# Altium footprint library Atmega128.PcbLib: 3 footprints
Each footprint in its own frame and in the unit in brackets; x right, y up, seen from the top. Pads: shape width x height; smd on the part's side, far side on the other; paste and mask are expansions set on the pad; w line width, h text height; cw(c..) or ccw(c..) is an arc to the next point about the centre after c.
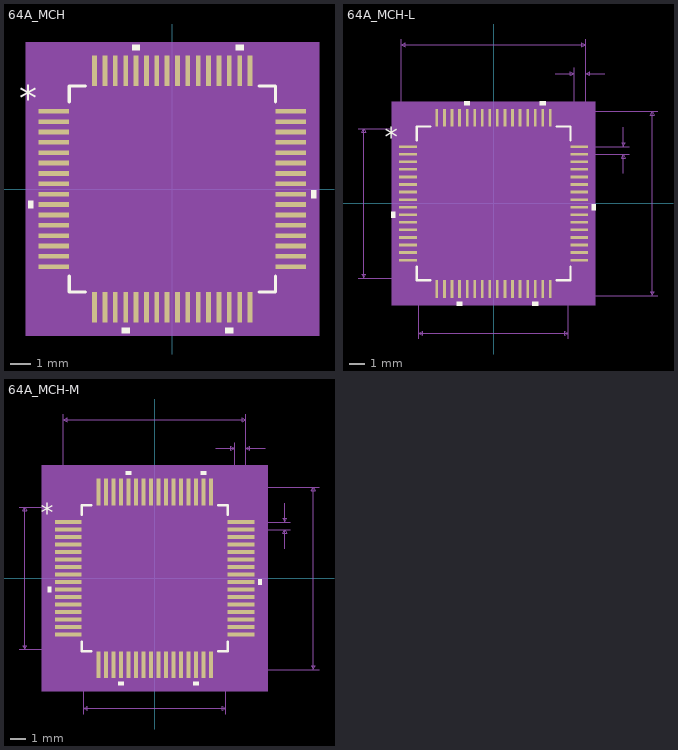
[diagram p0: the footprints below, top view; thin cyan lines are the x and y axes]

## 64A_MCH [mil]
pads (64):
  rect 58x9 smd paste+0 mask+0: 1(-225,147.75) 2(-225,128.05) 3(-225,108.35) 4(-225,88.65) 5(-225,68.95) 6(-225,49.25) 7(-225,29.55) 8(-225,9.85) 9(-225,-9.85) 10(-225,-29.55) 11(-225,-49.25) 12(-225,-68.95) 13(-225,-88.65) 14(-225,-108.35) 15(-225,-128.05) 16(-225,-147.75) 33(225,-147.75) 34(225,-128.05) 35(225,-108.35) 36(225,-88.65) 37(225,-68.95) 38(225,-49.25) 39(225,-29.55) 40(225,-9.85) 41(225,9.85) 42(225,29.55) 43(225,49.25) 44(225,68.95) 45(225,88.65) 46(225,108.35) 47(225,128.05) 48(225,147.75)
  rect 9x58 smd paste+0 mask+0: 17(-147.75,-225) 18(-128.05,-225) 19(-108.35,-225) 20(-88.65,-225) 21(-68.95,-225) 22(-49.25,-225) 23(-29.55,-225) 24(-9.85,-225) 25(9.85,-225) 26(29.55,-225) 27(49.25,-225) 28(68.95,-225) 29(88.65,-225) 30(108.35,-225) 31(128.05,-225) 32(147.75,-225) 49(147.75,225) 50(128.05,225) 51(108.35,225) 52(88.65,225) 53(68.95,225) 54(49.25,225) 55(29.55,225) 56(9.85,225) 57(-9.85,225) 58(-29.55,225) 59(-49.25,225) 60(-68.95,225) 61(-88.65,225) 62(-108.35,225) 63(-128.05,225) 64(-147.75,225)
Top Overlay:
  region: -61.45,264 -76.45,264 -76.45,274 -61.45,274
  region: 135.55,264 120.55,264 120.55,274 135.55,274
  region: 264,-2.35 274,-2.35 274,-17.35 264,-17.35
  region: 115.85,-264 100.85,-264 100.85,-274 115.85,-274
  region: -81.15,-264 -96.15,-264 -96.15,-274 -81.15,-274
  region: -264,-22.05 -274,-22.05 -274,-37.05 -264,-37.05
  lines w6: -196,-165.35 -196,-196 -165.35,-196 ; -196,165.35 -196,196 -165.35,196 ; 165.35,-196 196,-196 196,-165.35 ; 165.35,196 196,196 196,165.35
  text "*" at -291.5,147.6 h50
Mechanical 5:
  region: 279,-279 -279,-279 -279,279 279,279
Mechanical 13:
  drawing of 261 lines, arcs and shapes, not listed
  text "*" at -188.5,117.6 h50
Mechanical 15:
  region: -167.75,-201 -201,-201 -201,-167.75 -264,-167.75 -264,167.75 -201,167.75 -201,201 -167.75,201 -167.75,264 167.75,264 167.75,201 201,201 201,167.75 264,167.75 264,-167.75 201,-167.75 201,-201 167.75,-201 167.75,-264 -167.75,-264
  lines w6: -264,-167.75 -264,167.75 -201,167.75 -201,201 -167.75,201 -167.75,264 167.75,264 167.75,201 201,201 201,167.75 264,167.75 264,-167.75 201,-167.75 201,-201 167.75,-201 167.75,-264 -167.75,-264 -167.75,-201 -201,-201 -201,-167.75 -264,-167.75
3D body: height 10, standoff 0, extent 0,0 10,10
3D body "64A_MCH.step": height 65.12, standoff 0, extent -239.99,-239.99 240.01,240.01
3D body "64A_MCH.step": height 65.12, standoff 0, extent -239.99,-239.99 240.01,240.01

## 64A_MCH-L [mil]
pads (64):
  rect 46x7 smd: 1(-223,147.75) 2(-223,128.05) 3(-223,108.35) 4(-223,88.65) 5(-223,68.95) 6(-223,49.25) 7(-223,29.55) 8(-223,9.85) 9(-223,-9.85) 10(-223,-29.55) 11(-223,-49.25) 12(-223,-68.95) 13(-223,-88.65) 14(-223,-108.35) 15(-223,-128.05) 16(-223,-147.75) 33(223,-147.75) 34(223,-128.05) 35(223,-108.35) 36(223,-88.65) 37(223,-68.95) 38(223,-49.25) 39(223,-29.55) 40(223,-9.85) 41(223,9.85) 42(223,29.55) 43(223,49.25) 44(223,68.95) 45(223,88.65) 46(223,108.35) 47(223,128.05) 48(223,147.75)
  rect 7x46 smd: 17(-147.75,-223) 18(-128.05,-223) 19(-108.35,-223) 20(-88.65,-223) 21(-68.95,-223) 22(-49.25,-223) 23(-29.55,-223) 24(-9.85,-223) 25(9.85,-223) 26(29.55,-223) 27(49.25,-223) 28(68.95,-223) 29(88.65,-223) 30(108.35,-223) 31(128.05,-223) 32(147.75,-223) 49(147.75,223) 50(128.05,223) 51(108.35,223) 52(88.65,223) 53(68.95,223) 54(49.25,223) 55(29.55,223) 56(9.85,223) 57(-9.85,223) 58(-29.55,223) 59(-49.25,223) 60(-68.95,223) 61(-88.65,223) 62(-108.35,223) 63(-128.05,223) 64(-147.75,223)
Top Overlay:
  region: -61.45,256 -76.45,256 -76.45,266 -61.45,266
  region: 135.55,256 120.55,256 120.55,266 135.55,266
  region: 256,-2.35 266,-2.35 266,-17.35 256,-17.35
  region: 115.85,-256 100.85,-256 100.85,-266 115.85,-266
  region: -81.15,-256 -96.15,-256 -96.15,-266 -81.15,-266
  region: -256,-22.05 -266,-22.05 -266,-37.05 -256,-37.05
  lines w6: -200,-164.35 -200,-200 -164.35,-200 ; -200,164.35 -200,200 -164.35,200 ; 164.35,-200 200,-200 200,-164.35 ; 164.35,200 200,200 200,164.35
  text "*" at -283.5,147.6 h50
Mechanical 5:
  region: 265,-265 -265,-265 -265,265 265,265
Mechanical 7:
  lines w1: -353,-195 -147.75,-195 ; -353,195 -147.75,195 ; -240,147.75 -240,428 ; -195,-353 -195,-147.75 ; 147.75,-240 428,-240 ; 147.75,240 428,240 ; 160,338 210,338 ; 195,-353 195,-147.75 ; 210,147.75 210,353 ; 223,128.05 353,128.05 ; 223,147.75 353,147.75 ; 240,353 240,147.75 240,428 ; 290,338 240,338 ; 338,78.05 338,128.05 ; 338,197.75 338,147.75 ; -338,-195 -333,-185 -343,-185 -338,-195 ; -338,-195 -338,195 ; -338,195 -333,185 -343,185 -338,195 ; -240,413 -230,408 -230,418 -240,413 ; -240,413 240,413 ; -195,-338 -185,-343 -185,-333 -195,-338 ; -195,-338 195,-338 ; 195,-338 185,-343 185,-333 195,-338 ; 210,338 200,333 200,343 210,338 ; 240,338 250,333 250,343 240,338 ; 240,413 230,408 230,418 240,413 ; 338,128.05 343,118.05 333,118.05 338,128.05 ; 338,147.75 343,157.75 333,157.75 338,147.75 ; 413,-240 418,-230 408,-230 413,-240 ; 413,-240 413,240 ; 413,240 418,230 408,230 413,240
  text "0.39in/9.906mm" at -533,-12.5 h25
  text "0.39in/9.906mm" at -87.5,-383 h25
  text "0.48in/12.192mm" at 433,-12.5 h25
  text "0.48in/12.192mm" at -93.75,433 h25
  text "0.03in/0.762mm" at 137.5,358 h25
  text "0.02in/0.5mm" at 358,125.4 h25
  text "Default Vert Padstyle: RX7Y46D0T" at -400,-563 h50
  text "Default Horiz Padstyle: RX7Y46D0T" at -412.5,-513 h50
Mechanical 13:
  drawing of 261 lines, arcs and shapes, not listed
  text "*" at -192.5,117.6 h50
Mechanical 15:
  region: -155.75,-199 -199,-199 -199,-155.75 -250,-155.75 -250,155.75 -199,155.75 -199,199 -155.75,199 -155.75,250 155.75,250 155.75,199 199,199 199,155.75 250,155.75 250,-155.75 199,-155.75 199,-199 155.75,-199 155.75,-250 -155.75,-250
  lines w6: -250,-155.75 -250,155.75 -199,155.75 -199,199 -155.75,199 -155.75,250 155.75,250 155.75,199 199,199 199,155.75 250,155.75 250,-155.75 199,-155.75 199,-199 155.75,-199 155.75,-250 -155.75,-250 -155.75,-199 -199,-199 -199,-155.75 -250,-155.75
3D body: height 10, standoff 0, extent 0,0 10,10

## 64A_MCH-M [mil]
pads (64):
  rect 70x11 smd: 1(-227,147.75) 2(-227,128.05) 3(-227,108.35) 4(-227,88.65) 5(-227,68.95) 6(-227,49.25) 7(-227,29.55) 8(-227,9.85) 9(-227,-9.85) 10(-227,-29.55) 11(-227,-49.25) 12(-227,-68.95) 13(-227,-88.65) 14(-227,-108.35) 15(-227,-128.05) 16(-227,-147.75) 33(227,-147.75) 34(227,-128.05) 35(227,-108.35) 36(227,-88.65) 37(227,-68.95) 38(227,-49.25) 39(227,-29.55) 40(227,-9.85) 41(227,9.85) 42(227,29.55) 43(227,49.25) 44(227,68.95) 45(227,88.65) 46(227,108.35) 47(227,128.05) 48(227,147.75)
  rect 11x70 smd: 17(-147.75,-227) 18(-128.05,-227) 19(-108.35,-227) 20(-88.65,-227) 21(-68.95,-227) 22(-49.25,-227) 23(-29.55,-227) 24(-9.85,-227) 25(9.85,-227) 26(29.55,-227) 27(49.25,-227) 28(68.95,-227) 29(88.65,-227) 30(108.35,-227) 31(128.05,-227) 32(147.75,-227) 49(147.75,227) 50(128.05,227) 51(108.35,227) 52(88.65,227) 53(68.95,227) 54(49.25,227) 55(29.55,227) 56(9.85,227) 57(-9.85,227) 58(-29.55,227) 59(-49.25,227) 60(-68.95,227) 61(-88.65,227) 62(-108.35,227) 63(-128.05,227) 64(-147.75,227)
Top Overlay:
  region: -61.45,272 -76.45,272 -76.45,282 -61.45,282
  region: 135.55,272 120.55,272 120.55,282 135.55,282
  region: 272,-2.35 282,-2.35 282,-17.35 272,-17.35
  region: 115.85,-272 100.85,-272 100.85,-282 115.85,-282
  region: -81.15,-272 -96.15,-272 -96.15,-282 -81.15,-282
  region: -272,-22.05 -282,-22.05 -282,-37.05 -272,-37.05
  lines w6: -192,-166.35 -192,-192 -166.35,-192 ; -192,166.35 -192,192 -166.35,192 ; 166.35,-192 192,-192 192,-166.35 ; 166.35,192 192,192 192,166.35
  text "*" at -299.5,147.6 h50
Mechanical 5:
  region: 297,-297 -297,-297 -297,297 297,297
Mechanical 7:
  lines w1: -357,-187 -147.75,-187 ; -357,187 -147.75,187 ; -240,147.75 -240,432 ; -187,-357 -187,-147.75 ; 147.75,-240 432,-240 ; 147.75,240 432,240 ; 160,342 210,342 ; 187,-357 187,-147.75 ; 210,147.75 210,357 ; 227,128.05 357,128.05 ; 227,147.75 357,147.75 ; 240,357 240,147.75 240,432 ; 290,342 240,342 ; 342,78.05 342,128.05 ; 342,197.75 342,147.75 ; -342,-187 -337,-177 -347,-177 -342,-187 ; -342,-187 -342,187 ; -342,187 -337,177 -347,177 -342,187 ; -240,417 -230,412 -230,422 -240,417 ; -240,417 240,417 ; -187,-342 -177,-347 -177,-337 -187,-342 ; -187,-342 187,-342 ; 187,-342 177,-347 177,-337 187,-342 ; 210,342 200,337 200,347 210,342 ; 240,342 250,337 250,347 240,342 ; 240,417 230,412 230,422 240,417 ; 342,128.05 347,118.05 337,118.05 342,128.05 ; 342,147.75 347,157.75 337,157.75 342,147.75 ; 417,-240 422,-230 412,-230 417,-240 ; 417,-240 417,240 ; 417,240 422,230 412,230 417,240
  text "0.374in/9.5mm" at -524.5,-12.5 h25
  text "0.374in/9.5mm" at -81.25,-387 h25
  text "0.48in/12.192mm" at 437,-12.5 h25
  text "0.48in/12.192mm" at -93.75,437 h25
  text "0.03in/0.762mm" at 137.5,362 h25
  text "0.02in/0.5mm" at 362,125.4 h25
  text "Default Vert Padstyle: RX11Y70D0T" at -412.5,-567 h50
  text "Default Horiz Padstyle: RX11Y70D0T" at -425,-517 h50
Mechanical 13:
  drawing of 261 lines, arcs and shapes, not listed
  text "*" at -184.5,117.6 h50
Mechanical 15:
  region: -187.75,-207 -207,-207 -207,-187.75 -282,-187.75 -282,187.75 -207,187.75 -207,207 -187.75,207 -187.75,282 187.75,282 187.75,207 207,207 207,187.75 282,187.75 282,-187.75 207,-187.75 207,-207 187.75,-207 187.75,-282 -187.75,-282
  lines w6: -282,-187.75 -282,187.75 -207,187.75 -207,207 -187.75,207 -187.75,282 187.75,282 187.75,207 207,207 207,187.75 282,187.75 282,-187.75 207,-187.75 207,-207 187.75,-207 187.75,-282 -187.75,-282 -187.75,-207 -207,-207 -207,-187.75 -282,-187.75
3D body: height 10, standoff 0, extent 0,0 10,10
3D body "64A_MCH.step": height 65.12, standoff 0, extent -239.99,-240 240.01,240